# Altium integrated library TI Amplifiers and Linear Special Function Amplifier.IntLib: 708 symbols (part 1 of 47)
Pins are listed as number, name and electrical type; pins without a type are passive.

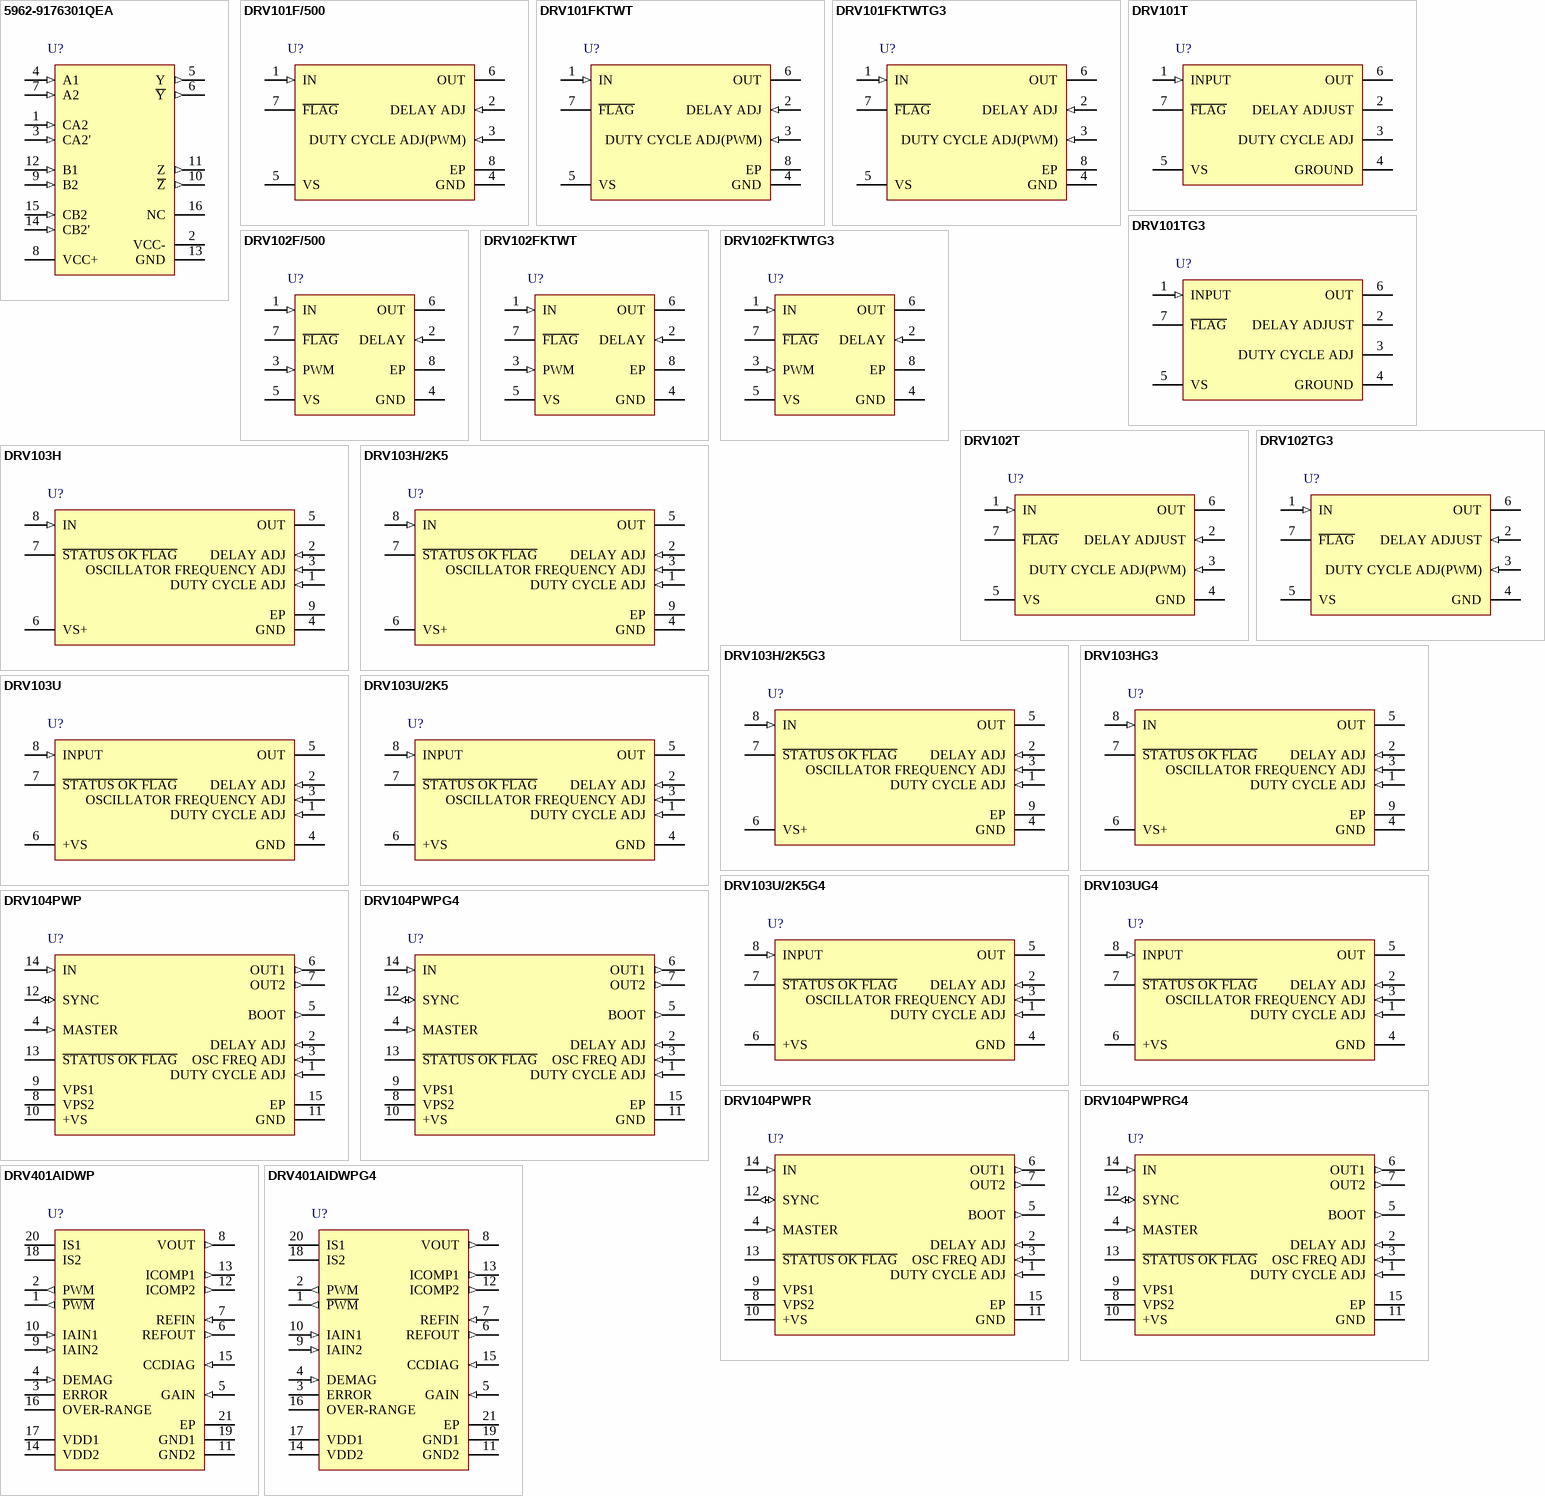
[diagram p0: symbols 5962-9176301QEA to DRV401AIDWPG4]

## 5962-9176301QEA
designator U?
Logarithmic Amplifier, -55 to 125 degC, 16-pin DIP (J16); Manufacturer: Texas Instruments; PartNumber: 5962-9176301QEA; DatasheetVersion: SLFS038; PackageVersion: 4040083/F, 03/2003; PackageReference: J16; PackageDescription: 16-Pin Ceramic, Glass In-Line, Row Spacing 7.62 mm, Pitch 2.54 mm; SubFamily: Logarithmic Amplifier; Mounting Technology: Through Hole; ComponentLink1Description: Manufacturer URL; ComponentLink1URL: http://www.ti.com/; ComponentLink2Description: Datasheet; ComponentLink2URL: http://www.ti.com/general/docs/lit/getliterature.tsp?genericPartNumber=TL441A&fileType=pdf; ComponentLink3Description: Package Specification; ComponentLink3URL: http://www.ti.com/lit/ds/symlink/uc1543.pdf
footprint TI-J16 (DIP, 16-Leads, Body 21.34x6.92 mm, Pitch 2.54 mm)
pins: 1 CA2 (in), 2 VCC- (power), 3 CA2' (in), 4 A1 (in), 5 Y (out), 6 ~{Y} (out), 7 A2 (in), 8 VCC+ (power), 9 B2 (in), 10 ~{Z} (out), 11 Z (out), 12 B1 (in), 13 GND (power), 14 CB2' (in), 15 CB2 (in), 16 NC

## DRV101F/500
designator U?
PWM Solenoid / Valve Driver, -55 to 125 degC, 7-pin DPAK (KTW7), Green (RoHS & no Sb/Br); Manufacturer: Texas Instruments; PartNumber: DRV101F/500; Iq(mA): 3.5; Iq(Max)(mA): 5; Low Side: TRUE; Output Current(Min)(A): 1.9; Saturation Voltage(Max)(V): 1; Vs(Max)(V): 60; Vs(Min)(V): 9; DatasheetVersion: SBVS008B; PackageVersion: 4201284/A, 08/2001; PackageReference: KTW7; PackageDescription: 7-Pin Plastic Flange Mount, Body 8.89 x 10.1 mm, Pitch 1.27 mm; Supplier 1: Digi-Key; Supplier Part Number 1: DRV101F/500-ND; Supplier 2: Newark; Supplier Part Number 2: 74C9514; Supplier 3: Mouser; Supplier Part Number 3: 595-DRV101F/500; Eco-Plan: Green (RoHS & no Sb/Br); Thermal Shutdown: TRUE; Mounting Technology: Surface Mount; Code_JEDEC: MO-169; ComponentLink1Description: Manufacturer URL; ComponentLink1URL: http://www.ti.com/; ComponentLink2Description: Datasheet; ComponentLink2URL: http://www.ti.com/general/docs/lit/getliterature.tsp?genericPartNumber=DRV101&fileType=pdf; ComponentLink3Description: Package Specification; ComponentLink3URL: http://www.ti.com/litv/pdf/mpsf015
footprint TI-KTW7_N (DPAK, 7-Leads, Body 9.4x10.4mm, Pitch 1.27mm, IPC Medium Density)
footprint TI-KTW7_L (DPAK, 7-Leads, Body 9.4x10.4mm, Pitch 1.27mm, IPC High Density)
footprint TI-KTW7_M (DPAK, 7-Leads, Body 9.4x10.4mm, Pitch 1.27mm, IPC Low Density)
pins: 1 IN (in) "The input is compatible with standard TTL levels. The device output becomes enabled when the input voltage is driven above the typical switching threshold, 1.7V. Below this level, the output is disabled. With no connection (See Datasheet)", 2 DELAY ADJ (in) "This pin sets the duration of the initial 100% duty cycle before the output goes into PWM mode. Leaving this pin floating results in a delay of approximately 15us, which is internally limited by parasitic capacitance. (See Datasheet)", 3 DUTY CYCLE ADJ(PWM) (in) "Internally, this pin connects to the input of a comparator and a 19kohm resistor to ground. It is driven by a 200uA current source from VS. The voltage at this node linearly sets the duty cycle. Duty cycle can be programmed (See Datasheet)", 4 GND (power) "This pin is electrically connected to the package tab. It must be connected to system ground for the DRV101 to function. It carries the 3.5mA quiescent current plus the load current when the device is on.", 5 VS (power) "This is the power supply pin. Operating range is +9V to +60V.", 6 OUT (oc) "The output is the collector of a power npn with the emitter connected to ground. Low power dissipation in the DRV101 is attained by the low saturation voltage and the fast switching transitions. Fall time is less than 75ns, (See Datasheet)", 7 ~{FLAG} (oc) "Normally high (active low), the Flag signals either an over-temperature, over-current, or under-current fault. The over/undercurrent flags are true only when the output is on (constant dc output or the “on” portion(See Datasheet)", 8 EP

## DRV101FKTWT
designator U?
PWM Solenoid / Valve Driver, -55 to 125 degC, 7-pin DPAK (KTW7), Green (RoHS & no Sb/Br); Manufacturer: Texas Instruments; PartNumber: DRV101FKTWT; Iq(mA): 3.5; Iq(Max)(mA): 5; Low Side: TRUE; Output Current(Min)(A): 1.9; Saturation Voltage(Max)(V): 1; Vs(Max)(V): 60; Vs(Min)(V): 9; DatasheetVersion: SBVS008B; PackageVersion: 4201284/A, 08/2001; PackageReference: KTW7; PackageDescription: 7-Pin Plastic Flange Mount, Body 8.89 x 10.1 mm, Pitch 1.27 mm; Supplier 1: Digi-Key; Supplier Part Number 1: 296-15963-2-ND; Supplier 2: Digi-Key; Supplier Part Number 2: 296-15963-1-ND; Supplier 3: Digi-Key; Supplier Part Number 3: 296-15963-6-ND; Supplier 4: Newark; Supplier Part Number 4: 87H0874; Supplier 5: Newark; Supplier Part Number 5: 28X3371; Supplier 6: Mouser; Supplier Part Number 6: 595-DRV101FKTWT; Eco-Plan: Green (RoHS & no Sb/Br); Thermal Shutdown: TRUE; Mounting Technology: Surface Mount; Code_JEDEC: MO-169; ComponentLink1Description: Manufacturer URL; ComponentLink1URL: http://www.ti.com/; ComponentLink2Description: Datasheet; ComponentLink2URL: http://www.ti.com/general/docs/lit/getliterature.tsp?genericPartNumber=DRV101&fileType=pdf; ComponentLink3Description: Package Specification; ComponentLink3URL: http://www.ti.com/litv/pdf/mpsf015
footprint TI-KTW7_N (DPAK, 7-Leads, Body 9.4x10.4mm, Pitch 1.27mm, IPC Medium Density)
footprint TI-KTW7_L (DPAK, 7-Leads, Body 9.4x10.4mm, Pitch 1.27mm, IPC High Density)
footprint TI-KTW7_M (DPAK, 7-Leads, Body 9.4x10.4mm, Pitch 1.27mm, IPC Low Density)
pins: 1 IN (in) "The input is compatible with standard TTL levels. The device output becomes enabled when the input voltage is driven above the typical switching threshold, 1.7V. Below this level, the output is disabled. With no connection (See Datasheet)", 2 DELAY ADJ (in) "This pin sets the duration of the initial 100% duty cycle before the output goes into PWM mode. Leaving this pin floating results in a delay of approximately 15us, which is internally limited by parasitic capacitance. (See Datasheet)", 3 DUTY CYCLE ADJ(PWM) (in) "Internally, this pin connects to the input of a comparator and a 19kohm resistor to ground. It is driven by a 200uA current source from VS. The voltage at this node linearly sets the duty cycle. Duty cycle can be programmed (See Datasheet)", 4 GND (power) "This pin is electrically connected to the package tab. It must be connected to system ground for the DRV101 to function. It carries the 3.5mA quiescent current plus the load current when the device is on.", 5 VS (power) "This is the power supply pin. Operating range is +9V to +60V.", 6 OUT (oc) "The output is the collector of a power npn with the emitter connected to ground. Low power dissipation in the DRV101 is attained by the low saturation voltage and the fast switching transitions. Fall time is less than 75ns, (See Datasheet)", 7 ~{FLAG} (oc) "Normally high (active low), the Flag signals either an over-temperature, over-current, or under-current fault. The over/undercurrent flags are true only when the output is on (constant dc output or the “on” portion(See Datasheet)", 8 EP

## DRV101FKTWTG3
designator U?
PWM Solenoid / Valve Driver, -55 to 125 degC, 7-pin DPAK (KTW7), Green (RoHS & no Sb/Br); Manufacturer: Texas Instruments; PartNumber: DRV101FKTWTG3; Iq(mA): 3.5; Iq(Max)(mA): 5; Low Side: TRUE; Output Current(Min)(A): 1.9; Saturation Voltage(Max)(V): 1; Vs(Max)(V): 60; Vs(Min)(V): 9; DatasheetVersion: SBVS008B; PackageVersion: 4201284/A, 08/2001; PackageReference: KTW7; PackageDescription: 7-Pin Plastic Flange Mount, Body 8.89 x 10.1 mm, Pitch 1.27 mm; Supplier 1: Digi-Key; Supplier Part Number 1: DRV101FKTWTG3-ND; Supplier 2: Mouser; Supplier Part Number 2: 595-DRV101FKTWTG3; Eco-Plan: Green (RoHS & no Sb/Br); Thermal Shutdown: TRUE; Mounting Technology: Surface Mount; Code_JEDEC: MO-169; ComponentLink1Description: Manufacturer URL; ComponentLink1URL: http://www.ti.com/; ComponentLink2Description: Datasheet; ComponentLink2URL: http://www.ti.com/general/docs/lit/getliterature.tsp?genericPartNumber=DRV101&fileType=pdf; ComponentLink3Description: Package Specification; ComponentLink3URL: http://www.ti.com/litv/pdf/mpsf015
footprint TI-KTW7_N (DPAK, 7-Leads, Body 9.4x10.4mm, Pitch 1.27mm, IPC Medium Density)
footprint TI-KTW7_L (DPAK, 7-Leads, Body 9.4x10.4mm, Pitch 1.27mm, IPC High Density)
footprint TI-KTW7_M (DPAK, 7-Leads, Body 9.4x10.4mm, Pitch 1.27mm, IPC Low Density)
pins: 1 IN (in) "The input is compatible with standard TTL levels. The device output becomes enabled when the input voltage is driven above the typical switching threshold, 1.7V. Below this level, the output is disabled. With no connection (See Datasheet)", 2 DELAY ADJ (in) "This pin sets the duration of the initial 100% duty cycle before the output goes into PWM mode. Leaving this pin floating results in a delay of approximately 15us, which is internally limited by parasitic capacitance. (See Datasheet)", 3 DUTY CYCLE ADJ(PWM) (in) "Internally, this pin connects to the input of a comparator and a 19kohm resistor to ground. It is driven by a 200uA current source from VS. The voltage at this node linearly sets the duty cycle. Duty cycle can be programmed (See Datasheet)", 4 GND (power) "This pin is electrically connected to the package tab. It must be connected to system ground for the DRV101 to function. It carries the 3.5mA quiescent current plus the load current when the device is on.", 5 VS (power) "This is the power supply pin. Operating range is +9V to +60V.", 6 OUT (oc) "The output is the collector of a power npn with the emitter connected to ground. Low power dissipation in the DRV101 is attained by the low saturation voltage and the fast switching transitions. Fall time is less than 75ns, (See Datasheet)", 7 ~{FLAG} (oc) "Normally high (active low), the Flag signals either an over-temperature, over-current, or under-current fault. The over/undercurrent flags are true only when the output is on (constant dc output or the “on” portion(See Datasheet)", 8 EP

## DRV101T
designator U?
PWM Solenoid / Valve Driver, -55 to 125 degC, 7-pin FM (KVT7), Green (RoHS & no Sb/Br); Manufacturer: Texas Instruments; PartNumber: DRV101T; Iq(mA): 3.5; Iq(Max)(mA): 5; Low Side: TRUE; Output Current(Min)(A): 1.9; Saturation Voltage(Max)(V): 1; Vs(Max)(V): 60; Vs(Min)(V): 9; DatasheetVersion: SBVS008B; PackageVersion: 4204912/A, 01/2003; PackageReference: KVT7; PackageDescription: 7-Pin Plastic Flange Mount, Body 10.16 x 4.495 mm, Pitch 1.27 mm; Supplier 1: Digi-Key; Supplier Part Number 1: DRV101T-ND; Supplier 2: Farnell; Supplier Part Number 2: 1097420; Supplier 3: Newark; Supplier Part Number 3: 34K3394; Supplier 4: Mouser; Supplier Part Number 4: 595-DRV101T; Eco-Plan: Green (RoHS & no Sb/Br); Thermal Shutdown: TRUE; Mounting Technology: Through Hole; ComponentLink1Description: Manufacturer URL; ComponentLink1URL: http://www.ti.com/; ComponentLink2Description: Datasheet; ComponentLink2URL: http://www.ti.com/general/docs/lit/getliterature.tsp?genericPartNumber=DRV101&fileType=pdf; ComponentLink3Description: Package Specification; ComponentLink3URL: http://www.ti.com/litv/pdf/mpzf004
footprint TI-KVT7 (FM, 7-Leads, Body 10.41 x 4.7mm, Pitch 1.27 mm)
pins: 1 INPUT (in) "The input is compatible with standard TTL levels. The device output becomes enabled when the input voltage is driven above the typical switching threshold, 1.7V. Below this level, the output is disabled. With no connection (See Datasheet)", 2 DELAY ADJUST "This pin sets the duration of the initial 100% duty cycle before the output goes into PWM mode. Leaving this pin floating results in a delay of approximately 15us, which is internally limited by parasitic capacitance. (See Datasheet)", 3 DUTY CYCLE ADJ "Internally, this pin connects to the input of a comparator and a 19kohm resistor to ground. It is driven by a 200uA current source from VS. The voltage at this node linearly sets the duty cycle. Duty cycle can be programmed (See Datasheet)", 4 GROUND (power) "This pin is electrically connected to the package tab. It must be connected to system ground for the DRV101 to function. It carries the 3.5mA quiescent current plus the load current when the device is on.", 5 VS (power) "This is the power supply pin. Operating range is +9V to +60V.", 6 OUT (oc) "The output is the collector of a power npn with the emitter connected to ground. Low power dissipation in the DRV101 is attained by the low saturation voltage and the fast switching transitions. Fall time is less than 75ns, (See Datasheet)", 7 ~{FLAG} (oc) "Normally high (active low), the Flag signals either an over-temperature, over-current, or under-current fault. The over/undercurrent flags are true only when the output is on (constant dc output or the “on?portion of PWM (See Datasheet)"

## DRV101TG3
designator U?
PWM Solenoid / Valve Driver, -55 to 125 degC, 7-pin FM (KVT7), Green (RoHS & no Sb/Br); Manufacturer: Texas Instruments; PartNumber: DRV101TG3; Iq(mA): 3.5; Iq(Max)(mA): 5; Low Side: TRUE; Output Current(Min)(A): 1.9; Saturation Voltage(Max)(V): 1; Vs(Max)(V): 60; Vs(Min)(V): 9; DatasheetVersion: SBVS008B; PackageVersion: 4204912/A, 01/2003; PackageReference: KVT7; PackageDescription: 7-Pin Plastic Flange Mount, Body 10.16 x 4.495 mm, Pitch 1.27 mm; Supplier 1: Digi-Key; Supplier Part Number 1: DRV101TG3-ND; Supplier 2: Newark; Supplier Part Number 2: 73K7773; Supplier 3: Mouser; Supplier Part Number 3: 595-DRV101TG3; Eco-Plan: Green (RoHS & no Sb/Br); Thermal Shutdown: TRUE; Mounting Technology: Through Hole; ComponentLink1Description: Manufacturer URL; ComponentLink1URL: http://www.ti.com/; ComponentLink2Description: Datasheet; ComponentLink2URL: http://www.ti.com/general/docs/lit/getliterature.tsp?genericPartNumber=DRV101&fileType=pdf; ComponentLink3Description: Package Specification; ComponentLink3URL: http://www.ti.com/litv/pdf/mpzf004
footprint TI-KVT7 (FM, 7-Leads, Body 10.41 x 4.7mm, Pitch 1.27 mm)
pins: 1 INPUT (in) "The input is compatible with standard TTL levels. The device output becomes enabled when the input voltage is driven above the typical switching threshold, 1.7V. Below this level, the output is disabled. With no connection (See Datasheet)", 2 DELAY ADJUST "This pin sets the duration of the initial 100% duty cycle before the output goes into PWM mode. Leaving this pin floating results in a delay of approximately 15us, which is internally limited by parasitic capacitance. (See Datasheet)", 3 DUTY CYCLE ADJ "Internally, this pin connects to the input of a comparator and a 19kohm resistor to ground. It is driven by a 200uA current source from VS. The voltage at this node linearly sets the duty cycle. Duty cycle can be programmed (See Datasheet)", 4 GROUND (power) "This pin is electrically connected to the package tab. It must be connected to system ground for the DRV101 to function. It carries the 3.5mA quiescent current plus the load current when the device is on.", 5 VS (power) "This is the power supply pin. Operating range is +9V to +60V.", 6 OUT (oc) "The output is the collector of a power npn with the emitter connected to ground. Low power dissipation in the DRV101 is attained by the low saturation voltage and the fast switching transitions. Fall time is less than 75ns, (See Datasheet)", 7 ~{FLAG} (oc) "Normally high (active low), the Flag signals either an over-temperature, over-current, or under-current fault. The over/undercurrent flags are true only when the output is on (constant dc output or the “on?portion of PWM (See Datasheet)"

## DRV102F/500
designator U?
PWM Solenoid / Valve Driver, -55 to 125 degC, 7-pin DPAK (KTW7), Green (RoHS & no Sb/Br); Manufacturer: Texas Instruments; PartNumber: DRV102F/500; Iq(mA): 6.5; Iq(Max)(mA): 9; Low Side: FALSE; Output Current(Min)(A): 2; Saturation Voltage(Max)(V): 2.2; Thermal Shutdown: TRUE; Vs(Max)(V): 60; Vs(Min)(V): 8; DatasheetVersion: SBVS009B; PackageVersion: 4201284/A, 08/2001; PackageReference: KTW7; PackageDescription: 7-Pin Plastic Flange Mount, Body 8.89 x 10.1 mm, Pitch 1.27 mm; Supplier 1: Digi-Key; Supplier Part Number 1: DRV102F/500-ND; Supplier 2: Farnell; Supplier Part Number 2: 1575424; Supplier 3: Newark; Supplier Part Number 3: 74C9517; Supplier 4: Mouser; Supplier Part Number 4: 595-DRV102F/500; Eco-Plan: Green (RoHS & no Sb/Br); Mounting Technology: Surface Mount; Code_JEDEC: MO-169; ComponentLink1Description: Manufacturer URL; ComponentLink1URL: http://www.ti.com/; ComponentLink2Description: Datasheet; ComponentLink2URL: http://www.ti.com/general/docs/lit/getliterature.tsp?genericPartNumber=DRV102&fileType=pdf; ComponentLink3Description: Package Specification; ComponentLink3URL: http://www.ti.com/litv/pdf/mpsf015
footprint TI-KTW7_N (DPAK, 7-Leads, Body 9.4x10.4mm, Pitch 1.27mm, IPC Medium Density)
footprint TI-KTW7_L (DPAK, 7-Leads, Body 9.4x10.4mm, Pitch 1.27mm, IPC High Density)
footprint TI-KTW7_M (DPAK, 7-Leads, Body 9.4x10.4mm, Pitch 1.27mm, IPC Low Density)
pins: 1 IN (in) "The input is compatible with standard TTL levels. The device output becomes enabled when the input voltage is driven above the typical switching threshold, 1.7V. Below this level, the output is disabled. With no connection (See Datasheet)", 2 DELAY (in) "This pin sets the duration of the initial 100% duty cycle before the output goes into PWM mode. Leaving this pin floating results in a delay of approximately 15us, which is internally limited by parasitic capacitance. (See Datasheet)", 3 PWM (in) "Internally, this pin connects to the input of a comparator and a 19kohm resistor to ground. It is driven by a 200uA current source  from VS. The voltage at this node linearly sets the duty cycle. Duty cycle can be programmed (See Datasheet)", 4 GND (power) "This pin is electrically connected to the package tab. It must be connected to system ground for the DRV102 to function. It carries the 6.5mA quiescent current.", 5 VS (power) "This is the power supply pin. Operating range is +8V to +60V.", 6 OUT (oe) "The output is the emitter of a power npn with the collector connected to VS. Low power dissipation in the DRV102 is obtained by low saturation voltage and fast switching transitions. Rise time is less than 250ns, fall time (See Datasheet)", 7 ~{FLAG} (oc) "Normally high (active low), the Flag signals either an over-temperature, over-current, or under-current fault. The over/undercurrent flags are true only when the output is on (constant dc output or the “on” portion(See Datasheet)", 8 EP

## DRV102FKTWT
designator U?
PWM Solenoid / Valve Driver, -55 to 125 degC, 7-pin DPAK (KTW7), Green (RoHS & no Sb/Br); Manufacturer: Texas Instruments; PartNumber: DRV102FKTWT; Iq(mA): 6.5; Iq(Max)(mA): 9; Low Side: FALSE; Output Current(Min)(A): 2; Saturation Voltage(Max)(V): 2.2; Thermal Shutdown: TRUE; Vs(Max)(V): 60; Vs(Min)(V): 8; DatasheetVersion: SBVS009B; PackageVersion: 4201284/A, 08/2001; PackageReference: KTW7; PackageDescription: 7-Pin Plastic Flange Mount, Body 8.89 x 10.1 mm, Pitch 1.27 mm; Supplier 1: Digi-Key; Supplier Part Number 1: 296-15964-2-ND; Supplier 2: Digi-Key; Supplier Part Number 2: 296-15964-1-ND; Supplier 3: Digi-Key; Supplier Part Number 3: 296-15964-6-ND; Supplier 4: Farnell; Supplier Part Number 4: 1461211; Supplier 5: Newark; Supplier Part Number 5: 61M5864; Supplier 6: Newark; Supplier Part Number 6: 87H0875; Supplier 7: Mouser; Supplier Part Number 7: 595-DRV102FKTWT; Eco-Plan: Green (RoHS & no Sb/Br); Mounting Technology: Surface Mount; Code_JEDEC: MO-169; ComponentLink1Description: Manufacturer URL; ComponentLink1URL: http://www.ti.com/; ComponentLink2Description: Datasheet; ComponentLink2URL: http://www.ti.com/general/docs/lit/getliterature.tsp?genericPartNumber=DRV102&fileType=pdf; ComponentLink3Description: Package Specification; ComponentLink3URL: http://www.ti.com/litv/pdf/mpsf015
footprint TI-KTW7_N (DPAK, 7-Leads, Body 9.4x10.4mm, Pitch 1.27mm, IPC Medium Density)
footprint TI-KTW7_L (DPAK, 7-Leads, Body 9.4x10.4mm, Pitch 1.27mm, IPC High Density)
footprint TI-KTW7_M (DPAK, 7-Leads, Body 9.4x10.4mm, Pitch 1.27mm, IPC Low Density)
pins: 1 IN (in) "The input is compatible with standard TTL levels. The device output becomes enabled when the input voltage is driven above the typical switching threshold, 1.7V. Below this level, the output is disabled. With no connection (See Datasheet)", 2 DELAY (in) "This pin sets the duration of the initial 100% duty cycle before the output goes into PWM mode. Leaving this pin floating results in a delay of approximately 15us, which is internally limited by parasitic capacitance. (See Datasheet)", 3 PWM (in) "Internally, this pin connects to the input of a comparator and a 19kohm resistor to ground. It is driven by a 200uA current source  from VS. The voltage at this node linearly sets the duty cycle. Duty cycle can be programmed (See Datasheet)", 4 GND (power) "This pin is electrically connected to the package tab. It must be connected to system ground for the DRV102 to function. It carries the 6.5mA quiescent current.", 5 VS (power) "This is the power supply pin. Operating range is +8V to +60V.", 6 OUT (oe) "The output is the emitter of a power npn with the collector connected to VS. Low power dissipation in the DRV102 is obtained by low saturation voltage and fast switching transitions. Rise time is less than 250ns, fall time (See Datasheet)", 7 ~{FLAG} (oc) "Normally high (active low), the Flag signals either an over-temperature, over-current, or under-current fault. The over/undercurrent flags are true only when the output is on (constant dc output or the “on” portion(See Datasheet)", 8 EP

## DRV102FKTWTG3
designator U?
PWM Solenoid / Valve Driver, -55 to 125 degC, 7-pin DPAK (KTW7), Green (RoHS & no Sb/Br); Manufacturer: Texas Instruments; PartNumber: DRV102FKTWTG3; Iq(mA): 6.5; Iq(Max)(mA): 9; Low Side: FALSE; Output Current(Min)(A): 2; Saturation Voltage(Max)(V): 2.2; Thermal Shutdown: TRUE; Vs(Max)(V): 60; Vs(Min)(V): 8; DatasheetVersion: SBVS009B; PackageVersion: 4201284/A, 08/2001; PackageReference: KTW7; PackageDescription: 7-Pin Plastic Flange Mount, Body 8.89 x 10.1 mm, Pitch 1.27 mm; Supplier 1: Digi-Key; Supplier Part Number 1: DRV102FKTWTG3-ND; Supplier 2: Mouser; Supplier Part Number 2: 595-DRV102FKTWTG3; Eco-Plan: Green (RoHS & no Sb/Br); Mounting Technology: Surface Mount; Code_JEDEC: MO-169; ComponentLink1Description: Manufacturer URL; ComponentLink1URL: http://www.ti.com/; ComponentLink2Description: Datasheet; ComponentLink2URL: http://www.ti.com/general/docs/lit/getliterature.tsp?genericPartNumber=DRV102&fileType=pdf; ComponentLink3Description: Package Specification; ComponentLink3URL: http://www.ti.com/litv/pdf/mpsf015
footprint TI-KTW7_N (DPAK, 7-Leads, Body 9.4x10.4mm, Pitch 1.27mm, IPC Medium Density)
footprint TI-KTW7_L (DPAK, 7-Leads, Body 9.4x10.4mm, Pitch 1.27mm, IPC High Density)
footprint TI-KTW7_M (DPAK, 7-Leads, Body 9.4x10.4mm, Pitch 1.27mm, IPC Low Density)
pins: 1 IN (in) "The input is compatible with standard TTL levels. The device output becomes enabled when the input voltage is driven above the typical switching threshold, 1.7V. Below this level, the output is disabled. With no connection (See Datasheet)", 2 DELAY (in) "This pin sets the duration of the initial 100% duty cycle before the output goes into PWM mode. Leaving this pin floating results in a delay of approximately 15us, which is internally limited by parasitic capacitance. (See Datasheet)", 3 PWM (in) "Internally, this pin connects to the input of a comparator and a 19kohm resistor to ground. It is driven by a 200uA current source  from VS. The voltage at this node linearly sets the duty cycle. Duty cycle can be programmed (See Datasheet)", 4 GND (power) "This pin is electrically connected to the package tab. It must be connected to system ground for the DRV102 to function. It carries the 6.5mA quiescent current.", 5 VS (power) "This is the power supply pin. Operating range is +8V to +60V.", 6 OUT (oe) "The output is the emitter of a power npn with the collector connected to VS. Low power dissipation in the DRV102 is obtained by low saturation voltage and fast switching transitions. Rise time is less than 250ns, fall time (See Datasheet)", 7 ~{FLAG} (oc) "Normally high (active low), the Flag signals either an over-temperature, over-current, or under-current fault. The over/undercurrent flags are true only when the output is on (constant dc output or the “on” portion(See Datasheet)", 8 EP

## DRV102T
designator U?
PWM Solenoid / Valve Driver, -55 to 125 degC, 7-pin FM (KVT7), Green (RoHS & no Sb/Br); Manufacturer: Texas Instruments; PartNumber: DRV102T; Iq(mA): 6.5; Iq(Max)(mA): 9; Low Side: FALSE; Output Current(Min)(A): 2; Saturation Voltage(Max)(V): 2.2; Thermal Shutdown: TRUE; Vs(Max)(V): 60; Vs(Min)(V): 8; DatasheetVersion: SBVS009B; PackageVersion: 4204912/A, 01/2003; PackageReference: KVT7; PackageDescription: 7-Pin Plastic Flange Mount, Body 10.16 x 4.495 mm, Pitch 1.27 mm; Supplier 1: Digi-Key; Supplier Part Number 1: DRV102T-ND; Supplier 2: Farnell; Supplier Part Number 2: 1648730; Supplier 3: Newark; Supplier Part Number 3: 67T1232; Supplier 4: Newark; Supplier Part Number 4: 74C9518; Supplier 5: Mouser; Supplier Part Number 5: 595-DRV102T; Eco-Plan: Green (RoHS & no Sb/Br); Mounting Technology: Through Hole; ComponentLink1Description: Manufacturer URL; ComponentLink1URL: http://www.ti.com/; ComponentLink2Description: Datasheet; ComponentLink2URL: http://www.ti.com/general/docs/lit/getliterature.tsp?genericPartNumber=DRV102&fileType=pdf; ComponentLink3Description: Package Specification; ComponentLink3URL: http://www.ti.com/litv/pdf/mpzf004
footprint TI-KVT7 (FM, 7-Leads, Body 10.41 x 4.7mm, Pitch 1.27 mm)
pins: 1 IN (in) "The input is compatible with standard TTL levels. The device output becomes enabled when the input voltage is driven above the typical switching threshold, 1.7V. Below this level, the output is disabled. With no connection (See Datasheet)", 2 DELAY ADJUST (in) "This pin sets the duration of the initial 100% duty cycle before the output goes into PWM mode. Leaving this pin floating results in a delay of approximately 15us, which is internally limited by parasitic capacitance. (See Datasheet)", 3 DUTY CYCLE ADJ(PWM) (in) "Internally, this pin connects to the input of a comparator and a 19kohm resistor to ground. It is driven by a 200uA current source from VS. The voltage at this node linearly sets the duty cycle. Duty cycle can be programmed (See Datasheet)", 4 GND (power) "This pin is electrically connected to the package tab. It must be connected to system ground for the DRV102 to function. It carries the 6.5mA quiescent current.", 5 VS (power) "This is the power supply pin. Operating range is +8V to +60V.", 6 OUT (oe) "The output is the emitter of a power npn with the collector connected to VS. Low power dissipation in the DRV102 is obtained by low saturation voltage and fast switching transitions. Rise time is less than 250ns, fall time (See Datasheet)", 7 ~{FLAG} (oc) "Normally high (active low), the Flag signals either an over-temperature, over-current, or under-current fault. The over/undercurrent flags are true only when the output is on (constant dc output or the “on” portion(See Datasheet)"

## DRV102TG3
designator U?
PWM Solenoid / Valve Driver, -55 to 125 degC, 7-pin FM (KVT7), Green (RoHS & no Sb/Br); Manufacturer: Texas Instruments; PartNumber: DRV102TG3; Iq(mA): 6.5; Iq(Max)(mA): 9; Low Side: FALSE; Output Current(Min)(A): 2; Saturation Voltage(Max)(V): 2.2; Thermal Shutdown: TRUE; Vs(Max)(V): 60; Vs(Min)(V): 8; DatasheetVersion: SBVS009B; PackageVersion: 4204912/A, 01/2003; PackageReference: KVT7; PackageDescription: 7-Pin Plastic Flange Mount, Body 10.16 x 4.495 mm, Pitch 1.27 mm; Supplier 1: Digi-Key; Supplier Part Number 1: DRV102TG3-ND; Supplier 2: Mouser; Supplier Part Number 2: 595-DRV102TG3; Eco-Plan: Green (RoHS & no Sb/Br); Mounting Technology: Through Hole; ComponentLink1Description: Manufacturer URL; ComponentLink1URL: http://www.ti.com/; ComponentLink2Description: Datasheet; ComponentLink2URL: http://www.ti.com/general/docs/lit/getliterature.tsp?genericPartNumber=DRV102&fileType=pdf; ComponentLink3Description: Package Specification; ComponentLink3URL: http://www.ti.com/litv/pdf/mpzf004
footprint TI-KVT7 (FM, 7-Leads, Body 10.41 x 4.7mm, Pitch 1.27 mm)
pins: 1 IN (in) "The input is compatible with standard TTL levels. The device output becomes enabled when the input voltage is driven above the typical switching threshold, 1.7V. Below this level, the output is disabled. With no connection (See Datasheet)", 2 DELAY ADJUST (in) "This pin sets the duration of the initial 100% duty cycle before the output goes into PWM mode. Leaving this pin floating results in a delay of approximately 15us, which is internally limited by parasitic capacitance. (See Datasheet)", 3 DUTY CYCLE ADJ(PWM) (in) "Internally, this pin connects to the input of a comparator and a 19kohm resistor to ground. It is driven by a 200uA current source from VS. The voltage at this node linearly sets the duty cycle. Duty cycle can be programmed (See Datasheet)", 4 GND (power) "This pin is electrically connected to the package tab. It must be connected to system ground for the DRV102 to function. It carries the 6.5mA quiescent current.", 5 VS (power) "This is the power supply pin. Operating range is +8V to +60V.", 6 OUT (oe) "The output is the emitter of a power npn with the collector connected to VS. Low power dissipation in the DRV102 is obtained by low saturation voltage and fast switching transitions. Rise time is less than 250ns, fall time (See Datasheet)", 7 ~{FLAG} (oc) "Normally high (active low), the Flag signals either an over-temperature, over-current, or under-current fault. The over/undercurrent flags are true only when the output is on (constant dc output or the “on” portion(See Datasheet)"

## DRV103H
designator U?
PWM Low Side Driver (3 A) for Solenoids, Coils, Valves, Heaters, and Lamps, -40 to 85 degC, 8-pin SOP (DDA8), Green (RoHS & no Sb/Br); Manufacturer: Texas Instruments; PartNumber: DRV103H; Iq(mA): 0.4; Iq(Max)(mA): 0.8; Low Side: TRUE; Saturation Voltage(Max)(V): 0.6; Vs(Max)(V): 32; Vs(Min)(V): 8; DatasheetVersion: SBVS029A; PackageVersion: 4202561/F, 12/2011; PackageReference: DDA8-1775X1775TP; PackageDescription: 8-Pin PowerPAD(TM) Plastic Small Outline, Body 4.9 x 3.9 mm, Pitch 1.27 mm; Supplier 1: Digi-Key; Supplier Part Number 1: DRV103H-ND; Supplier 2: Farnell; Supplier Part Number 2: 1212388; Supplier 3: Newark; Supplier Part Number 3: 31C6363; Supplier 4: Mouser; Supplier Part Number 4: 595-DRV103H; Eco-Plan: Green (RoHS & no Sb/Br); Mounting Technology: Surface Mount; Code_JEDEC: MS-012; ComponentLink1Description: Manufacturer URL; ComponentLink1URL: http://www.ti.com/; ComponentLink2Description: Datasheet; ComponentLink2URL: http://www.ti.com/general/docs/lit/getliterature.tsp?genericPartNumber=DRV103&fileType=pdf; ComponentLink3Description: Package Specification; ComponentLink3URL: http://www.ti.com/litv/pdf/mpds092e
footprint TI-DDA8-1775X1775TP_N (SOP, 8-Leads, Body 4.9x3.9mm, Pitch 1.27mm, Thermal Pad 1.775x1.775mm, IPC Medium Density)
footprint TI-DDA8-1775X1775TP_L (SOP, 8-Leads, Body 4.9x3.9mm, Pitch 1.27mm, Thermal Pad 1.775x1.775mm, IPC High Density)
footprint TI-DDA8-1775X1775TP_M (SOP, 8-Leads, Body 4.9x3.9mm, Pitch 1.27mm, Thermal Pad 1.775x1.775mm, IPC Low Density)
pins: 1 DUTY CYCLE ADJ (in) "Internally, this pin connects to the input of a comparator and a (2.75 x IREF) current source from VS. The voltage at this node linearly sets the duty cycle. Duty cycle can be programmed with a resistor, analog voltage, or (See Datasheet)", 2 DELAY ADJ (in) "This pin sets the duration of the initial 100% duty cycle before the output goes into PWM mode. Leaving this pin floating results in a delay of approximately 18us, which is internally limited by parasitic capacitance. (See Datasheet)", 3 OSCILLATOR FREQUENCY ADJ (in) "PWM frequency is adjustable. A resistor to ground sets the current IREF and the internal PWM oscillator frequency. A range of 500Hz Frequency Adjust to 100kHz can be achieved with practical resistor values. Although (See Datasheet)", 4 GND (power) "This pin must be connected to system ground for the DRV103 to function. It carries the 0.4mA quiescent current plus the full load current when the power DMOS transistor is switched on.", 5 OUT (oc) "The output is the drain of a power DMOS transistor with its source connected to ground. Its low on-resistance (0.5ohm typ) assures low power dissipation in the DRV103. Gate drive to the power device is controlled to provide (See Datasheet)", 6 VS+ (power) "This is the power supply pin. Operating range is +8V to +32V. +VS must be >= the supply voltage to the load.", 7 ~{STATUS OK FLAG} (oc) "Normally HIGH (active LOW), a Flag LOW signals either an over-temperature or over-current fault. The over-current flag (Status OK) is LOW only when the output is ON (constant DC output or the “ON?portion of PWM mode)(See Datasheet)", 8 IN (in) "The input is compatible with standard TTL levels. The device output becomes enabled when the input voltage is driven above the typical switching threshold, 1.7V. Below this level, the output is disabled. Input current is (See Datasheet)", 9 EP "EXPOSED PAD"

## DRV103H/2K5
designator U?
PWM Low Side Driver (3 A) for Solenoids, Coils, Valves, Heaters, and Lamps, -40 to 85 degC, 8-pin SOP (DDA8), Green (RoHS & no Sb/Br); Manufacturer: Texas Instruments; PartNumber: DRV103H/2K5; Iq(mA): 0.4; Iq(Max)(mA): 0.8; Low Side: TRUE; Saturation Voltage(Max)(V): 0.6; Vs(Max)(V): 32; Vs(Min)(V): 8; DatasheetVersion: SBVS029A; PackageVersion: 4202561/F, 12/2011; PackageReference: DDA8-1775X1775TP; PackageDescription: 8-Pin PowerPAD(TM) Plastic Small Outline, Body 4.9 x 3.9 mm, Pitch 1.27 mm; Supplier 1: Digi-Key; Supplier Part Number 1: DRV103H/2K5TR-ND; Supplier 2: Digi-Key; Supplier Part Number 2: DRV103H/2K5CT-ND; Supplier 3: Digi-Key; Supplier Part Number 3: DRV103H/2K5DKR-ND; Supplier 4: Newark; Supplier Part Number 4: 74C9519; Supplier 5: Mouser; Supplier Part Number 5: 595-DRV103H/2K5; Eco-Plan: Green (RoHS & no Sb/Br); Mounting Technology: Surface Mount; Code_JEDEC: MS-012; ComponentLink1Description: Manufacturer URL; ComponentLink1URL: http://www.ti.com/; ComponentLink2Description: Datasheet; ComponentLink2URL: http://www.ti.com/general/docs/lit/getliterature.tsp?genericPartNumber=DRV103&fileType=pdf; ComponentLink3Description: Package Specification; ComponentLink3URL: http://www.ti.com/litv/pdf/mpds092e
footprint TI-DDA8-1775X1775TP_N (SOP, 8-Leads, Body 4.9x3.9mm, Pitch 1.27mm, Thermal Pad 1.775x1.775mm, IPC Medium Density)
footprint TI-DDA8-1775X1775TP_L (SOP, 8-Leads, Body 4.9x3.9mm, Pitch 1.27mm, Thermal Pad 1.775x1.775mm, IPC High Density)
footprint TI-DDA8-1775X1775TP_M (SOP, 8-Leads, Body 4.9x3.9mm, Pitch 1.27mm, Thermal Pad 1.775x1.775mm, IPC Low Density)
pins: 1 DUTY CYCLE ADJ (in) "Internally, this pin connects to the input of a comparator and a (2.75 x IREF) current source from VS. The voltage at this node linearly sets the duty cycle. Duty cycle can be programmed with a resistor, analog voltage, or (See Datasheet)", 2 DELAY ADJ (in) "This pin sets the duration of the initial 100% duty cycle before the output goes into PWM mode. Leaving this pin floating results in a delay of approximately 18us, which is internally limited by parasitic capacitance. (See Datasheet)", 3 OSCILLATOR FREQUENCY ADJ (in) "PWM frequency is adjustable. A resistor to ground sets the current IREF and the internal PWM oscillator frequency. A range of 500Hz Frequency Adjust to 100kHz can be achieved with practical resistor values. Although (See Datasheet)", 4 GND (power) "This pin must be connected to system ground for the DRV103 to function. It carries the 0.4mA quiescent current plus the full load current when the power DMOS transistor is switched on.", 5 OUT (oc) "The output is the drain of a power DMOS transistor with its source connected to ground. Its low on-resistance (0.5ohm typ) assures low power dissipation in the DRV103. Gate drive to the power device is controlled to provide (See Datasheet)", 6 VS+ (power) "This is the power supply pin. Operating range is +8V to +32V. +VS must be >= the supply voltage to the load.", 7 ~{STATUS OK FLAG} (oc) "Normally HIGH (active LOW), a Flag LOW signals either an over-temperature or over-current fault. The over-current flag (Status OK) is LOW only when the output is ON (constant DC output or the “ON?portion of PWM mode)(See Datasheet)", 8 IN (in) "The input is compatible with standard TTL levels. The device output becomes enabled when the input voltage is driven above the typical switching threshold, 1.7V. Below this level, the output is disabled. Input current is (See Datasheet)", 9 EP "EXPOSED PAD"

## DRV103H/2K5G3
designator U?
PWM Low Side Driver (3 A) for Solenoids, Coils, Valves, Heaters, and Lamps, -40 to 85 degC, 8-pin SOP (DDA8), Green (RoHS & no Sb/Br); Manufacturer: Texas Instruments; PartNumber: DRV103H/2K5G3; Iq(mA): 0.4; Iq(Max)(mA): 0.8; Low Side: TRUE; Saturation Voltage(Max)(V): 0.6; Vs(Max)(V): 32; Vs(Min)(V): 8; DatasheetVersion: SBVS029A; PackageVersion: 4202561/F, 12/2011; PackageReference: DDA8-1775X1775TP; PackageDescription: 8-Pin PowerPAD(TM) Plastic Small Outline, Body 4.9 x 3.9 mm, Pitch 1.27 mm; Supplier 1: Digi-Key; Supplier Part Number 1: DRV103H/2K5G3-ND; Supplier 2: Mouser; Supplier Part Number 2: 595-DRV103H/2K5G3; Eco-Plan: Green (RoHS & no Sb/Br); Mounting Technology: Surface Mount; Code_JEDEC: MS-012; ComponentLink1Description: Manufacturer URL; ComponentLink1URL: http://www.ti.com/; ComponentLink2Description: Datasheet; ComponentLink2URL: http://www.ti.com/general/docs/lit/getliterature.tsp?genericPartNumber=DRV103&fileType=pdf; ComponentLink3Description: Package Specification; ComponentLink3URL: http://www.ti.com/litv/pdf/mpds092e
footprint TI-DDA8-1775X1775TP_N (SOP, 8-Leads, Body 4.9x3.9mm, Pitch 1.27mm, Thermal Pad 1.775x1.775mm, IPC Medium Density)
footprint TI-DDA8-1775X1775TP_L (SOP, 8-Leads, Body 4.9x3.9mm, Pitch 1.27mm, Thermal Pad 1.775x1.775mm, IPC High Density)
footprint TI-DDA8-1775X1775TP_M (SOP, 8-Leads, Body 4.9x3.9mm, Pitch 1.27mm, Thermal Pad 1.775x1.775mm, IPC Low Density)
pins: 1 DUTY CYCLE ADJ (in) "Internally, this pin connects to the input of a comparator and a (2.75 x IREF) current source from VS. The voltage at this node linearly sets the duty cycle. Duty cycle can be programmed with a resistor, analog voltage, or (See Datasheet)", 2 DELAY ADJ (in) "This pin sets the duration of the initial 100% duty cycle before the output goes into PWM mode. Leaving this pin floating results in a delay of approximately 18us, which is internally limited by parasitic capacitance. (See Datasheet)", 3 OSCILLATOR FREQUENCY ADJ (in) "PWM frequency is adjustable. A resistor to ground sets the current IREF and the internal PWM oscillator frequency. A range of 500Hz Frequency Adjust to 100kHz can be achieved with practical resistor values. Although (See Datasheet)", 4 GND (power) "This pin must be connected to system ground for the DRV103 to function. It carries the 0.4mA quiescent current plus the full load current when the power DMOS transistor is switched on.", 5 OUT (oc) "The output is the drain of a power DMOS transistor with its source connected to ground. Its low on-resistance (0.5ohm typ) assures low power dissipation in the DRV103. Gate drive to the power device is controlled to provide (See Datasheet)", 6 VS+ (power) "This is the power supply pin. Operating range is +8V to +32V. +VS must be >= the supply voltage to the load.", 7 ~{STATUS OK FLAG} (oc) "Normally HIGH (active LOW), a Flag LOW signals either an over-temperature or over-current fault. The over-current flag (Status OK) is LOW only when the output is ON (constant DC output or the “ON?portion of PWM mode)(See Datasheet)", 8 IN (in) "The input is compatible with standard TTL levels. The device output becomes enabled when the input voltage is driven above the typical switching threshold, 1.7V. Below this level, the output is disabled. Input current is (See Datasheet)", 9 EP "EXPOSED PAD"

## DRV103HG3
designator U?
PWM Low Side Driver (3 A) for Solenoids, Coils, Valves, Heaters, and Lamps, -40 to 85 degC, 8-pin SOP (DDA8), Green (RoHS & no Sb/Br); Manufacturer: Texas Instruments; PartNumber: DRV103HG3; Iq(mA): 0.4; Iq(Max)(mA): 0.8; Low Side: TRUE; Saturation Voltage(Max)(V): 0.6; Vs(Max)(V): 32; Vs(Min)(V): 8; DatasheetVersion: SBVS029A; PackageVersion: 4202561/F, 12/2011; PackageReference: DDA8-1775X1775TP; PackageDescription: 8-Pin PowerPAD(TM) Plastic Small Outline, Body 4.9 x 3.9 mm, Pitch 1.27 mm; Supplier 1: Digi-Key; Supplier Part Number 1: DRV103HG3-ND; Supplier 2: Mouser; Supplier Part Number 2: 595-DRV103HG3; Eco-Plan: Green (RoHS & no Sb/Br); Mounting Technology: Surface Mount; Code_JEDEC: MS-012; ComponentLink1Description: Manufacturer URL; ComponentLink1URL: http://www.ti.com/; ComponentLink2Description: Datasheet; ComponentLink2URL: http://www.ti.com/general/docs/lit/getliterature.tsp?genericPartNumber=DRV103&fileType=pdf; ComponentLink3Description: Package Specification; ComponentLink3URL: http://www.ti.com/litv/pdf/mpds092e
footprint TI-DDA8-1775X1775TP_N (SOP, 8-Leads, Body 4.9x3.9mm, Pitch 1.27mm, Thermal Pad 1.775x1.775mm, IPC Medium Density)
footprint TI-DDA8-1775X1775TP_L (SOP, 8-Leads, Body 4.9x3.9mm, Pitch 1.27mm, Thermal Pad 1.775x1.775mm, IPC High Density)
footprint TI-DDA8-1775X1775TP_M (SOP, 8-Leads, Body 4.9x3.9mm, Pitch 1.27mm, Thermal Pad 1.775x1.775mm, IPC Low Density)
pins: 1 DUTY CYCLE ADJ (in) "Internally, this pin connects to the input of a comparator and a (2.75 x IREF) current source from VS. The voltage at this node linearly sets the duty cycle. Duty cycle can be programmed with a resistor, analog voltage, or (See Datasheet)", 2 DELAY ADJ (in) "This pin sets the duration of the initial 100% duty cycle before the output goes into PWM mode. Leaving this pin floating results in a delay of approximately 18us, which is internally limited by parasitic capacitance. (See Datasheet)", 3 OSCILLATOR FREQUENCY ADJ (in) "PWM frequency is adjustable. A resistor to ground sets the current IREF and the internal PWM oscillator frequency. A range of 500Hz Frequency Adjust to 100kHz can be achieved with practical resistor values. Although (See Datasheet)", 4 GND (power) "This pin must be connected to system ground for the DRV103 to function. It carries the 0.4mA quiescent current plus the full load current when the power DMOS transistor is switched on.", 5 OUT (oc) "The output is the drain of a power DMOS transistor with its source connected to ground. Its low on-resistance (0.5ohm typ) assures low power dissipation in the DRV103. Gate drive to the power device is controlled to provide (See Datasheet)", 6 VS+ (power) "This is the power supply pin. Operating range is +8V to +32V. +VS must be >= the supply voltage to the load.", 7 ~{STATUS OK FLAG} (oc) "Normally HIGH (active LOW), a Flag LOW signals either an over-temperature or over-current fault. The over-current flag (Status OK) is LOW only when the output is ON (constant DC output or the “ON?portion of PWM mode)(See Datasheet)", 8 IN (in) "The input is compatible with standard TTL levels. The device output becomes enabled when the input voltage is driven above the typical switching threshold, 1.7V. Below this level, the output is disabled. Input current is (See Datasheet)", 9 EP "EXPOSED PAD"

## DRV103U
designator U?
PWM Low Side Driver (1.5 A) for Solenoids, Coils, Valves, Heaters, and Lamps, -40 to 85 degC, 8-pin SOIC (D8), Green (RoHS & no Sb/Br); Manufacturer: Texas Instruments; PartNumber: DRV103U; Iq(mA): 0.4; Iq(Max)(mA): 0.8; Low Side: TRUE; Saturation Voltage(Max)(V): 0.6; Vs(Max)(V): 32; Vs(Min)(V): 8; DatasheetVersion: SBVS029A; PackageVersion: 4040047-3/M, 06/2011; PackageReference: D8; PackageDescription: 8-Pin Plastic Small Outline, Body 4.9 x 3.9 mm, Pitch 1.27 mm; Supplier 1: Digi-Key; Supplier Part Number 1: 296-11622-ND; Supplier 2: Newark; Supplier Part Number 2: 28X3372; Supplier 3: Newark; Supplier Part Number 3: 74C9520; Supplier 4: Mouser; Supplier Part Number 4: 595-DRV103U; Eco-Plan: Green (RoHS & no Sb/Br); Mounting Technology: Surface Mount; Code_JEDEC: MS-012; ComponentLink1Description: Manufacturer URL; ComponentLink1URL: http://www.ti.com/; ComponentLink2Description: Datasheet; ComponentLink2URL: http://www.ti.com/general/docs/lit/getliterature.tsp?genericPartNumber=DRV103&fileType=pdf; ComponentLink3Description: Package Specification; ComponentLink3URL: http://www.ti.com/litv/pdf/msoi002j
footprint TI-D8_N (SOIC, 8-Leads, Body 5x4mm, Pitch 1.27mm, IPC Medium Density)
footprint TI-D8_L (SOIC, 8-Leads, Body 5x4mm, Pitch 1.27mm, IPC High Density)
footprint TI-D8_M (SOIC, 8-Leads, Body 5x4mm, Pitch 1.27mm, IPC Low Density)
pins: 1 DUTY CYCLE ADJ (in) "Internally, this pin connects to the input of a comparator and a (2.75 x IREF) current source from VS. The voltage at this node linearly sets the duty cycle. Duty cycle can be programmed with a resistor, analog voltage, or (See Datasheet)", 2 DELAY ADJ (in) "This pin sets the duration of the initial 100% duty cycle before the output goes into PWM mode. Leaving this pin floating results in a delay of approximately 18us, which is internally limited by parasitic capacitance. (See Datasheet)", 3 OSCILLATOR FREQUENCY ADJ (in) "PWM frequency is adjustable. A resistor to ground sets the current IREF and the internal PWM oscillator frequency. A range of 500Hz to 100kHz can be achieved with practical resistor values. Although oscillator frequency (See Datasheet)", 4 GND (power) "This pin must be connected to system ground for the DRV103 to function. It carries the 0.4mA quiescent current plus the full load current when the power DMOS transistor is switched on.", 5 OUT (oc) "The output is the drain of a power DMOS transistor with its source connected to ground. Its low on-resistance (0.5ohm typ) assures low power dissipation in the DRV103. Gate drive to the power device is controlled to provide (See Datasheet)", 6 +VS (power) "This is the power supply pin. Operating range is +8V to +32V. +VS must be >= the supply voltage to the load.", 7 ~{STATUS OK FLAG} (oc) "Normally HIGH (active LOW), a Flag LOW signals either an over-temperature or over-current fault. The over-current flag (Status OK) is LOW only when the output is ON (constant DC output or the “ON” portion of PWM mode)(See Datasheet)", 8 INPUT (in) "The input is compatible with standard TTL levels. The device output becomes enabled when the input voltage is driven above the typical switching threshold, 1.7V. Below this level, the output is disabled. Input current is (See Datasheet)"